# EAGLE library part POT_RK14 (library wheat)
Alps RK14 stereo pot
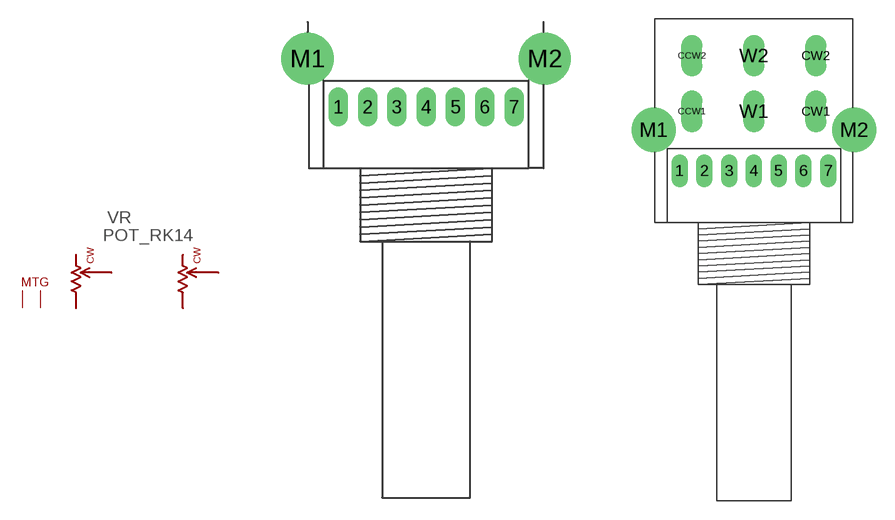
[diagram p250: symbol with the pads of POT_RK14; footprints POT_RK14, POT_RK14_TKD]

Designator prefix VR

## POT_RK14  [POT_RK14]
1  CCW1  pas
2  CCW2  pas
3  W2  pas
4  W1  pas
5  CW2  pas
6  CW1  pas
M1  M1  pas
M2  M2  pas

## POT_RK14_CP600  [POT_RK14_TKD]
1  CCW1  pas
2  CCW2  pas
3  W2  pas
4  W1  pas
5  CW2  pas
6  CW1  pas
CCW1  CCW1  pas
CCW2  CCW2  pas
CW1  CW1  pas
CW2  CW2  pas
M1  M1  pas
M2  M2  pas
W1  W1  pas
W2  W2  pas

## Footprint POT_RK14 (pad centres in mm)
drill 0.813 long: 1 -6,4.2; 2 -4,4.2; 3 -2,4.2; 4 0,4.2; 5 2,4.2; 6 4,4.2; 7 6,4.2
drill 2.54: M1 -8.1,7.5; M2 8.1,7.5

## Footprint POT_RK14_TKD (pad centres in mm)
drill 0.813 long: 1 -6,4.2; 2 -4,4.2; 3 -2,4.2; 4 0,4.2; 5 2,4.2; 6 4,4.2; 7 6,4.2
drill 1 pad 1.676 long: CCW1 -5,9; CCW2 -5,13.5; CW1 5,9; CW2 5,13.5; W1 0,9; W2 0,13.5
drill 2.54: M1 -8.1,7.5; M2 8.1,7.5